# EAGLE library part PINHEADER2-2X6 (library C8051F300)
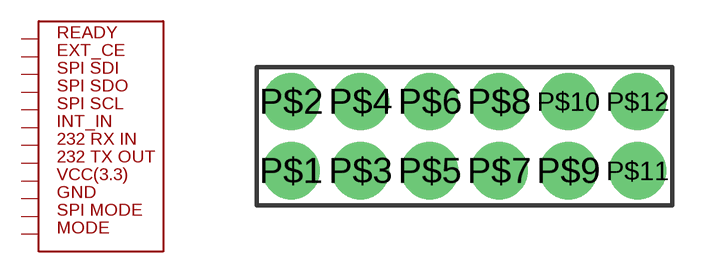
[diagram p29: symbol with the pads of PINHEADER2-2X6; footprint PINHEADER2-2X6]

Designator prefix -

## PINHEADER2-2X6  [PINHEADER2-2X6]
P$1  P$1
P$2  P$2
P$3  P$3
P$4  P$4
P$5  P$5
P$6  P$6
P$7  P$7
P$8  P$8
P$9  P$9
P$10  P$10
P$11  P$11
P$12  P$12

## Footprint PINHEADER2-2X6 (pad centres in mm)
drill 1.1 round: P$1 -5,-1; P$2 -5,1; P$3 -3,-1; P$4 -3,1; P$5 -1,-1; P$6 -1,1; P$7 1,-1; P$8 1,1; P$9 3,-1; P$10 3,1; P$11 5,-1; P$12 5,1